# EAGLE library part BTM222 (library mylib)
Bluetooth module
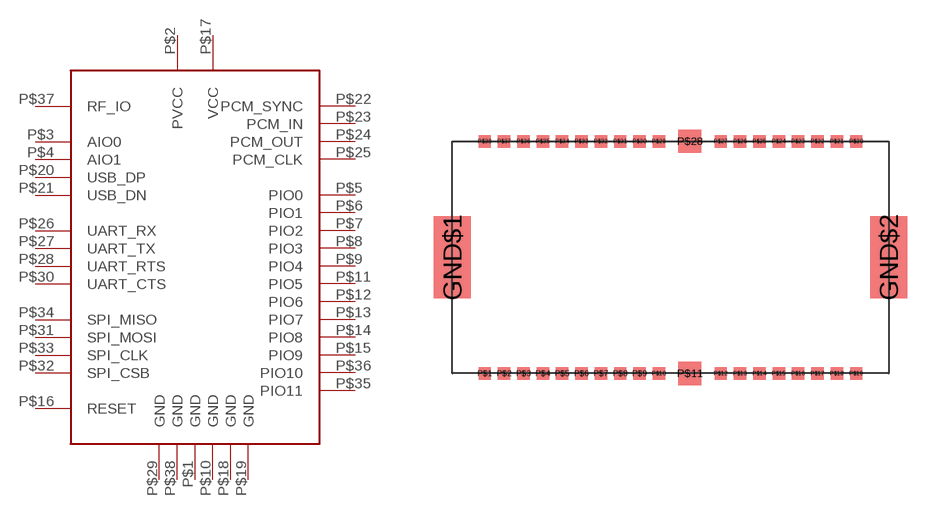
[diagram p5: symbol with the pads of BTM-22X; footprint BTM-22X]

Designator prefix IC

## BTM222  [BTM-22X]
P$1  GND  pwr
P$2  PVCC  pwr
P$3  AIO0
P$4  AIO1
P$5  PIO0
P$6  PIO1
P$7  PIO2
P$8  PIO3
P$9  PIO4
P$10  GND  pwr
P$11  PIO5
P$12  PIO6
P$13  PIO7
P$14  PIO8
P$15  PIO9
P$16  RESET
P$17  VCC  pwr
P$18  GND  pwr
P$19  GND  pwr
P$20  USB_DP
P$21  USB_DN
P$22  PCM_SYNC
P$23  PCM_IN
P$24  PCM_OUT
P$25  PCM_CLK
P$26  UART_RX
P$27  UART_TX
P$28  UART_RTS
P$29  GND  pwr
P$30  UART_CTS
P$31  SPI_MOSI
P$32  SPI_CSB
P$33  SPI_CLK
P$34  SPI_MISO
P$35  PIO11
P$36  PIO10
P$37  RF_IO
P$38  GND  pwr

## Footprint BTM-22X (pad centres in mm)
smd 2.4 x 5.3: GND$1 -2.1,7.5; GND$2 26.1,7.5
smd 0.8 x 0.8: P$1 0,0; P$2 1.25,0; P$3 2.5,0; P$4 3.75,0; P$5 5,0; P$6 6.25,0; P$7 7.5,0; P$8 8.75,0; P$9 10,0; P$10 11.25,0; P$12 15.25,0; P$13 16.5,0; P$14 17.75,0; P$15 19,0; P$16 20.25,0; P$17 21.5,0; P$18 22.75,0; P$19 24,0; P$20 24,15; P$21 22.75,15; P$22 21.5,15; P$23 20.25,15; P$24 19,15; P$25 17.75,15; P$26 16.5,15; P$27 15.25,15; P$29 11.25,15; P$30 10,15; P$31 8.75,15; P$32 7.5,15; P$33 6.25,15; P$34 5,15; P$35 3.75,15; P$36 2.5,15; P$37 1.25,15; P$38 0,15
smd 1.5 x 1.5: P$11 13.25,0; P$28 13.25,15